# EAGLE library part LM2678_NHM_14 (library cyberhedz)
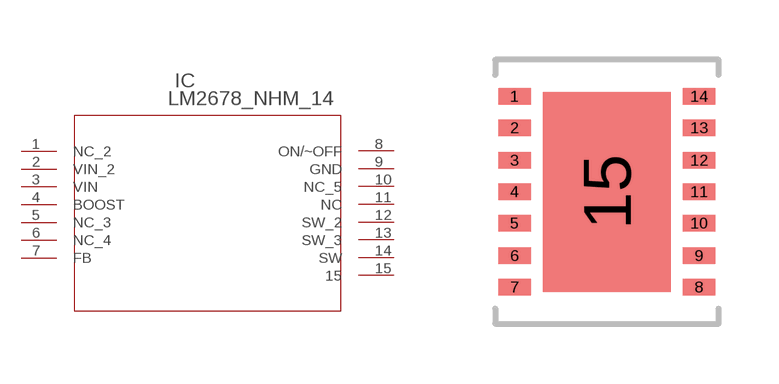
[diagram p5: symbol with the pads of SRC14A; footprint SRC14A]

Designator prefix IC

## LM2678_NHM_14 (BASE_PN: LM2678; COMPTYPE: Switcher; PARTNUMBER: LM2678SD-12; SYMBOL: NameLM2678SD-12; TYPE: LM2678SD-12; VENDOR: NationalSemiconductor; VERSION: 05/02/2007)  [SRC14A]
1  NC_2  pas
2  VIN_2  in
3  VIN  in
4  BOOST  pas
5  NC_3  pas
6  NC_4  pas
7  FB  pas
8  ON/~OFF  pas
9  GND  pas
10  NC_5  pas
11  NC  pas
12  SW_2  out
13  SW_3  out
14  SW  out
15  15  pas

## Footprint SRC14A (pad centres in mm)
smd 0.813 x 0.406: 1 -2.311,2.388; 2 -2.311,1.6; 3 -2.311,0.787; 4 -2.311,0; 5 -2.311,-0.787; 6 -2.311,-1.6; 7 -2.311,-2.388; 8 2.311,-2.388; 9 2.311,-1.6; 10 2.311,-0.787; 11 2.311,0; 12 2.311,0.787; 13 2.311,1.6; 14 2.311,2.388
smd 3.2 x 5.004: 15 0,0